# Altium footprint library passive elements.PcbLib: 4 footprints
Each footprint in its own frame and in the unit in brackets; x right, y up, seen from the top. Pads: shape width x height; smd on the part's side, far side on the other; paste and mask are expansions set on the pad; w line width, h text height; cw(c..) or ccw(c..) is an arc to the next point about the centre after c.
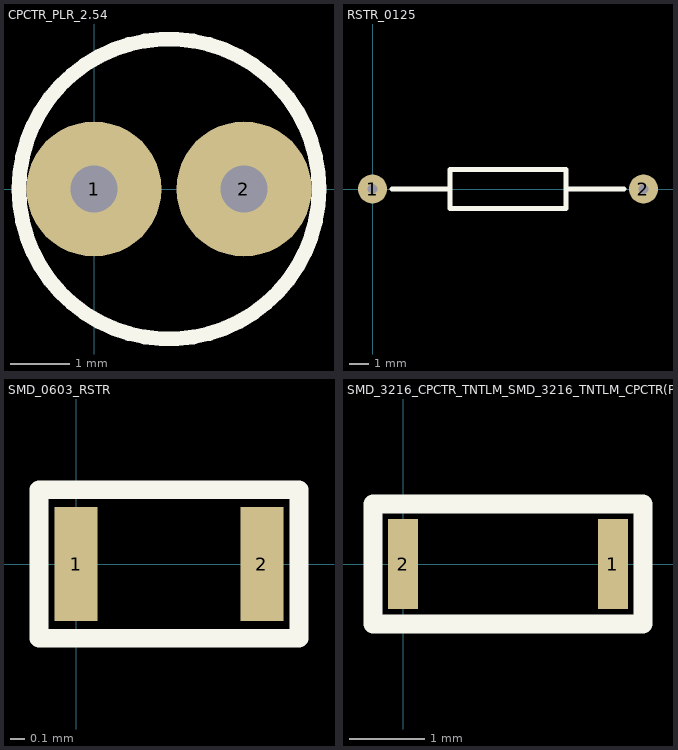
[diagram p0: the footprints below, top view; thin cyan lines are the x and y axes]

## CPCTR_PLR_2.54 [mil]
pads (2):
  round 90 hole 31.5: 1(0,0) 2(100,0)
Top Overlay:
  lines w9.8: -50,0 ccw(c50,0) 150,0 ccw(c50,0) -50,0

## RSTR_0125 [mm]
pads (2):
  round 1.5 hole 0.508: 1(0,0) 2(14,0)
Top Overlay:
  lines w0.249: 1,0 4,0 ; 10,0 13,0 ; 4,-1 10,-1 10,1 4,1 4,-1

## SMD_0603_RSTR [mm]
pads (2):
  rect 0.3x0.8 smd: 1(0,0) 2(1.301,0)
Top Overlay:
  lines w0.13: -0.26,-0.52 -0.26,0.52 1.561,0.52 1.561,-0.52 -0.26,-0.52

## SMD_3216_CPCTR_TNTLM_SMD_3216_TNTLM_CPCTR(Primary) [mm]
pads (2):
  rect 0.4x1.2 smd: 1(2.8,0) 2(0,0)
Top Overlay:
  lines w0.249: -0.4,-0.8 -0.4,0.8 3.2,0.8 3.2,-0.8 -0.4,-0.8